# Altium footprint library CN330.PcbLib: 1 footprints
Each footprint in its own frame and in the unit in brackets; x right, y up, seen from the top. Pads: shape width x height; smd on the part's side, far side on the other; paste and mask are expansions set on the pad; w line width, h text height; cw(c..) or ccw(c..) is an arc to the next point about the centre after c.
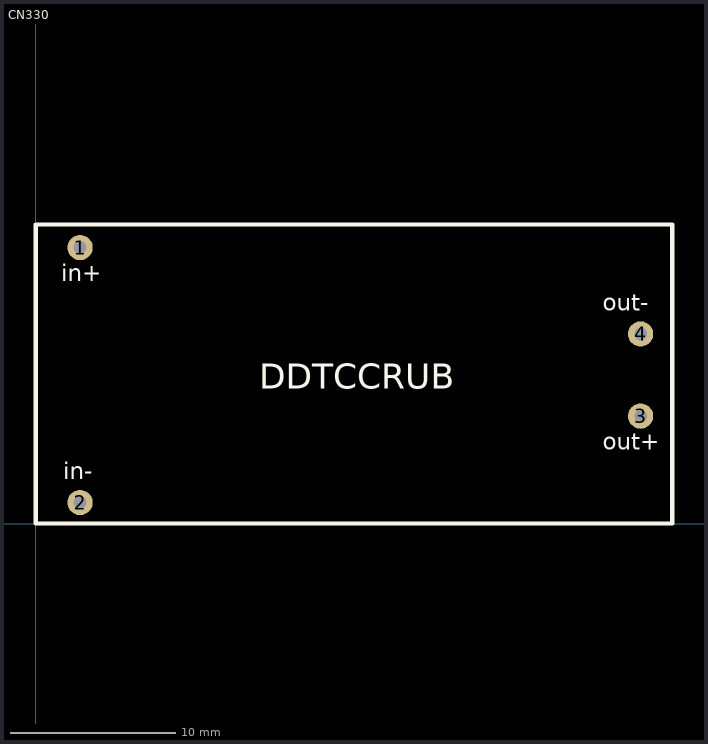
[diagram p0: the footprint, top view; thin cyan lines are the x and y axes]

## CN330 [mil]
pads (4):
  round 60 hole 30: 1(105,655) 2(105,50) 3(1435,255) 4(1435,450)
Top Overlay:
  lines w10: 0,0 0,710 1510,710 1510,0 0,0
  text "DDTCCRUB" at 530,320 h60
  text "out-" at 1345,505 h40
  text "in-" at 65,105 h40
  text "out+" at 1345,175 h40
  text "in+" at 60,575 h40
3D body "DDTCCRUB CN330X.STEP": height 194.69, standoff -1.38, extent 0,0 1511.81,708.66